# EAGLE library part AD7476 (library IC)
Digi-Key Part Number AD7476ARTZ-500RL7CT-ND Manufacturer Analog Devices Inc Manufacturer Part Number AD7476ARTZ-500RL7 Description IC ADC 12BIT 1MSPS SOT-23-6 Number of Bits 12 Sampling Rate (Per Second) 1M Data Interface DSP, MICROWIRE?, QSPI?, Serial, SPI? Number of Converters 1 Power Dissipation (Max) 17.5mW Voltage Supply Source Single Supply
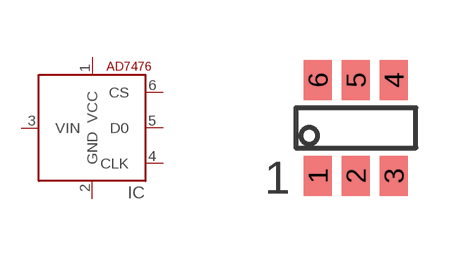
[diagram p194: symbol with the pads of SOT23-6; footprint SOT23-6]

Designator prefix IC

## AD7476-SOT23-6  [SOT23-6]
1  VCC  pwr
2  GND  pwr
3  VIN
4  CLK
5  D0
6  CS

## Footprint SOT23-6 (pad centres in mm)
smd 0.7 x 1: 1 -0.95,-1.2; 2 0,-1.2; 3 0.95,-1.2; 4 0.95,1.2; 5 0,1.2; 6 -0.95,1.2